# Altium schematic symbol library WiMOD_Modules_SchLib.SchLib: 15 symbols
Pins are listed as number, name and electrical type; pins without a type are passive.

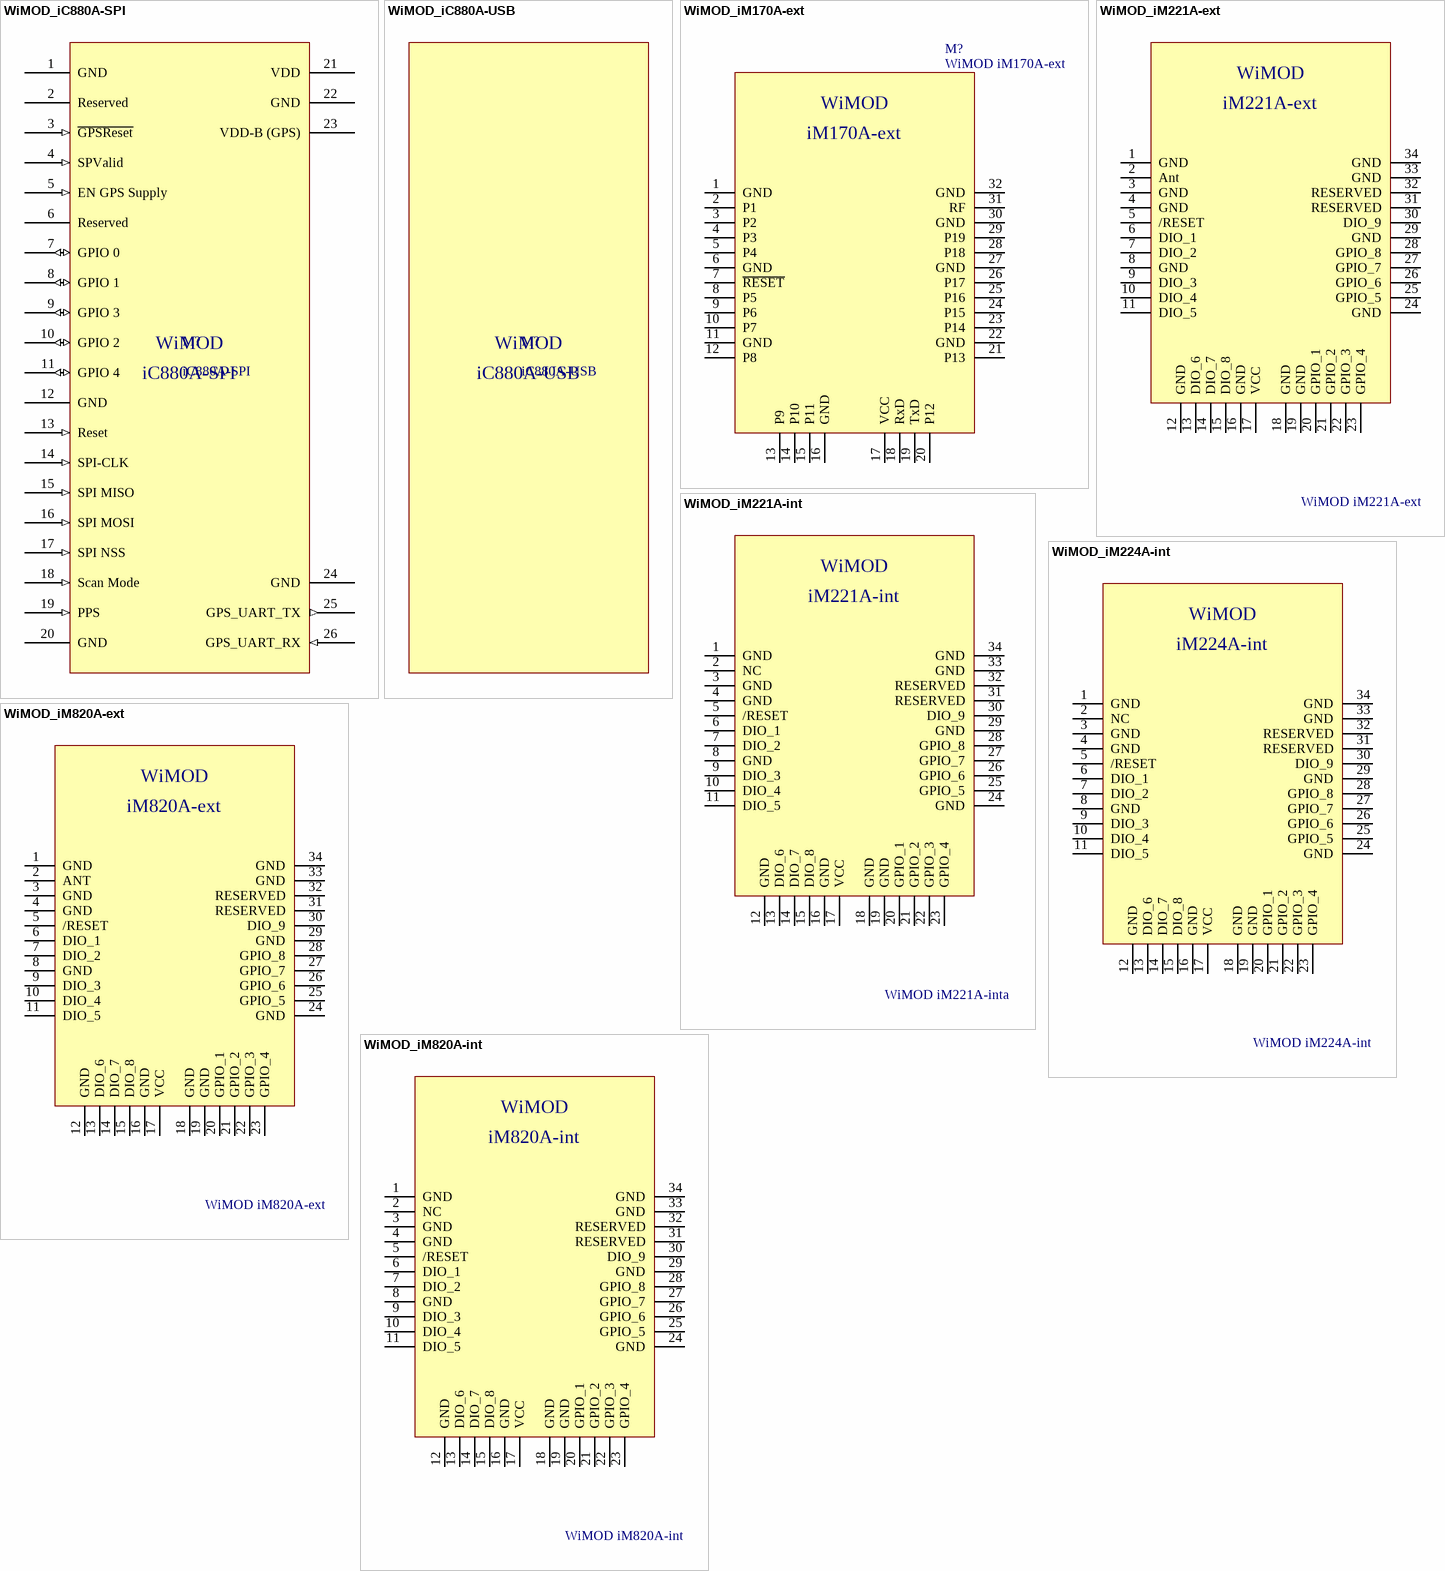
[diagram p0: symbols WiMOD_iC880A-SPI to WiMOD_iM820A-int]

## WiMOD_iC880A-SPI
designator M?, comment iC880A-SPI
WiMOD iC880A for SPI connection; Manufacturer: IMST GmbH
footprint WiMOD_iC880A-SPI
pins: 1 GND (power), 2 Reserved, 3 ~{GPSReset} (in), 4 SPValid (in), 5 EN GPS Supply (in), 6 Reserved, 7 GPIO 0 (io), 8 GPIO 1 (io), 9 GPIO 3 (io), 10 GPIO 2 (io), 11 GPIO 4 (io), 12 GND (power), 13 Reset (in), 14 SPI-CLK (in), 15 SPI MISO (in), 16 SPI MOSI (in), 17 SPI NSS (in), 18 Scan Mode (in), 19 PPS (in), 20 GND (power), 21 VDD (power), 22 GND (power), 23 VDD-B (GPS) (power), 24 GND (power), 25 GPS_UART_TX (out), 26 GPS_UART_RX (in)
text: WiMOD

## WiMOD_iC880A-USB
designator M?, comment iC880A-USB
WiMOD iC880A for USB connection; Manufacturer: IMST GmbH
footprint WiMOD_iC880A-USB
text: WiMOD

## WiMOD_iM170A-ext
designator M?, comment WiMOD iM170A-ext
WiMOD iM170A with RF pad; Manufacturer: IMST GmbH
footprint WiMOD_iM170A
pins: 1 GND, 2 P1, 3 P2, 4 P3, 5 P4, 6 GND, 7 ~{RESET}, 8 P5, 9 P6, 10 P7, 11 GND, 12 P8, 13 P9, 14 P10, 15 P11, 16 GND, 17 VCC, 18 RxD, 19 TxD, 20 P12, 21 P13, 22 GND, 23 P14, 24 P15, 25 P16, 26 P17, 27 GND, 28 P18, 29 P19, 30 GND, 31 RF, 32 GND
text: WiMOD; iM170A-ext

## WiMOD_iM221A-ext
designator M?, comment WiMOD iM221A-ext
WiMOD iM221A with RF pad; Manufacturer: IMST GmbH
footprint WiMOD_IM221A
pins: 1 GND, 2 Ant, 3 GND, 4 GND, 5 /RESET, 6 DIO_1, 7 DIO_2, 8 GND, 9 DIO_3, 10 DIO_4, 11 DIO_5, 12 GND, 13 DIO_6, 14 DIO_7, 15 DIO_8, 16 GND, 17 VCC, 18 GND, 19 GND, 20 GPIO_1, 21 GPIO_2, 22 GPIO_3, 23 GPIO_4, 24 GND, 25 GPIO_5, 26 GPIO_6, 27 GPIO_7, 28 GPIO_8, 29 GND, 30 DIO_9, 31 RESERVED, 32 RESERVED, 33 GND, 34 GND
text: WiMOD; iM221A-ext

## WiMOD_iM221A-int
designator M?, comment WiMOD iM221A-inta
WiMOD iM221A with internal Antenna; Manufacturer: IMST GmbH
footprint WiMOD_IM221A
pins: 1 GND, 2 NC, 3 GND, 4 GND, 5 /RESET, 6 DIO_1, 7 DIO_2, 8 GND, 9 DIO_3, 10 DIO_4, 11 DIO_5, 12 GND, 13 DIO_6, 14 DIO_7, 15 DIO_8, 16 GND, 17 VCC, 18 GND, 19 GND, 20 GPIO_1, 21 GPIO_2, 22 GPIO_3, 23 GPIO_4, 24 GND, 25 GPIO_5, 26 GPIO_6, 27 GPIO_7, 28 GPIO_8, 29 GND, 30 DIO_9, 31 RESERVED, 32 RESERVED, 33 GND, 34 GND
text: WiMOD; iM221A-int

## WiMOD_iM224A-int
designator M?, comment WiMOD iM224A-int
WiMOD iM224A with internal Antenna; Manufacturer: IMST GmbH
footprint WiMOD_IM224A
pins: 1 GND, 2 NC, 3 GND, 4 GND, 5 /RESET, 6 DIO_1, 7 DIO_2, 8 GND, 9 DIO_3, 10 DIO_4, 11 DIO_5, 12 GND, 13 DIO_6, 14 DIO_7, 15 DIO_8, 16 GND, 17 VCC, 18 GND, 19 GND, 20 GPIO_1, 21 GPIO_2, 22 GPIO_3, 23 GPIO_4, 24 GND, 25 GPIO_5, 26 GPIO_6, 27 GPIO_7, 28 GPIO_8, 29 GND, 30 DIO_9, 31 RESERVED, 32 RESERVED, 33 GND, 34 GND
text: WiMOD; iM224A-int

## WiMOD_iM820A-ext
designator M?, comment WiMOD iM820A-ext
WiMOD iM820A with RF pad; Manufacturer: IMST GmbH
footprint WiMOD_IM820A
pins: 1 GND, 2 ANT, 3 GND, 4 GND, 5 /RESET, 6 DIO_1, 7 DIO_2, 8 GND, 9 DIO_3, 10 DIO_4, 11 DIO_5, 12 GND, 13 DIO_6, 14 DIO_7, 15 DIO_8, 16 GND, 17 VCC, 18 GND, 19 GND, 20 GPIO_1, 21 GPIO_2, 22 GPIO_3, 23 GPIO_4, 24 GND, 25 GPIO_5, 26 GPIO_6, 27 GPIO_7, 28 GPIO_8, 29 GND, 30 DIO_9, 31 RESERVED, 32 RESERVED, 33 GND, 34 GND
text: WiMOD; iM820A-ext

## WiMOD_iM820A-int
designator M?, comment WiMOD iM820A-int
WiMOD iM820A with internal Antenna; Manufacturer: IMST GmbH
footprint WiMOD_IM820A
pins: 1 GND, 2 NC, 3 GND, 4 GND, 5 /RESET, 6 DIO_1, 7 DIO_2, 8 GND, 9 DIO_3, 10 DIO_4, 11 DIO_5, 12 GND, 13 DIO_6, 14 DIO_7, 15 DIO_8, 16 GND, 17 VCC, 18 GND, 19 GND, 20 GPIO_1, 21 GPIO_2, 22 GPIO_3, 23 GPIO_4, 24 GND, 25 GPIO_5, 26 GPIO_6, 27 GPIO_7, 28 GPIO_8, 29 GND, 30 DIO_9, 31 RESERVED, 32 RESERVED, 33 GND, 34 GND
text: WiMOD; iM820A-int

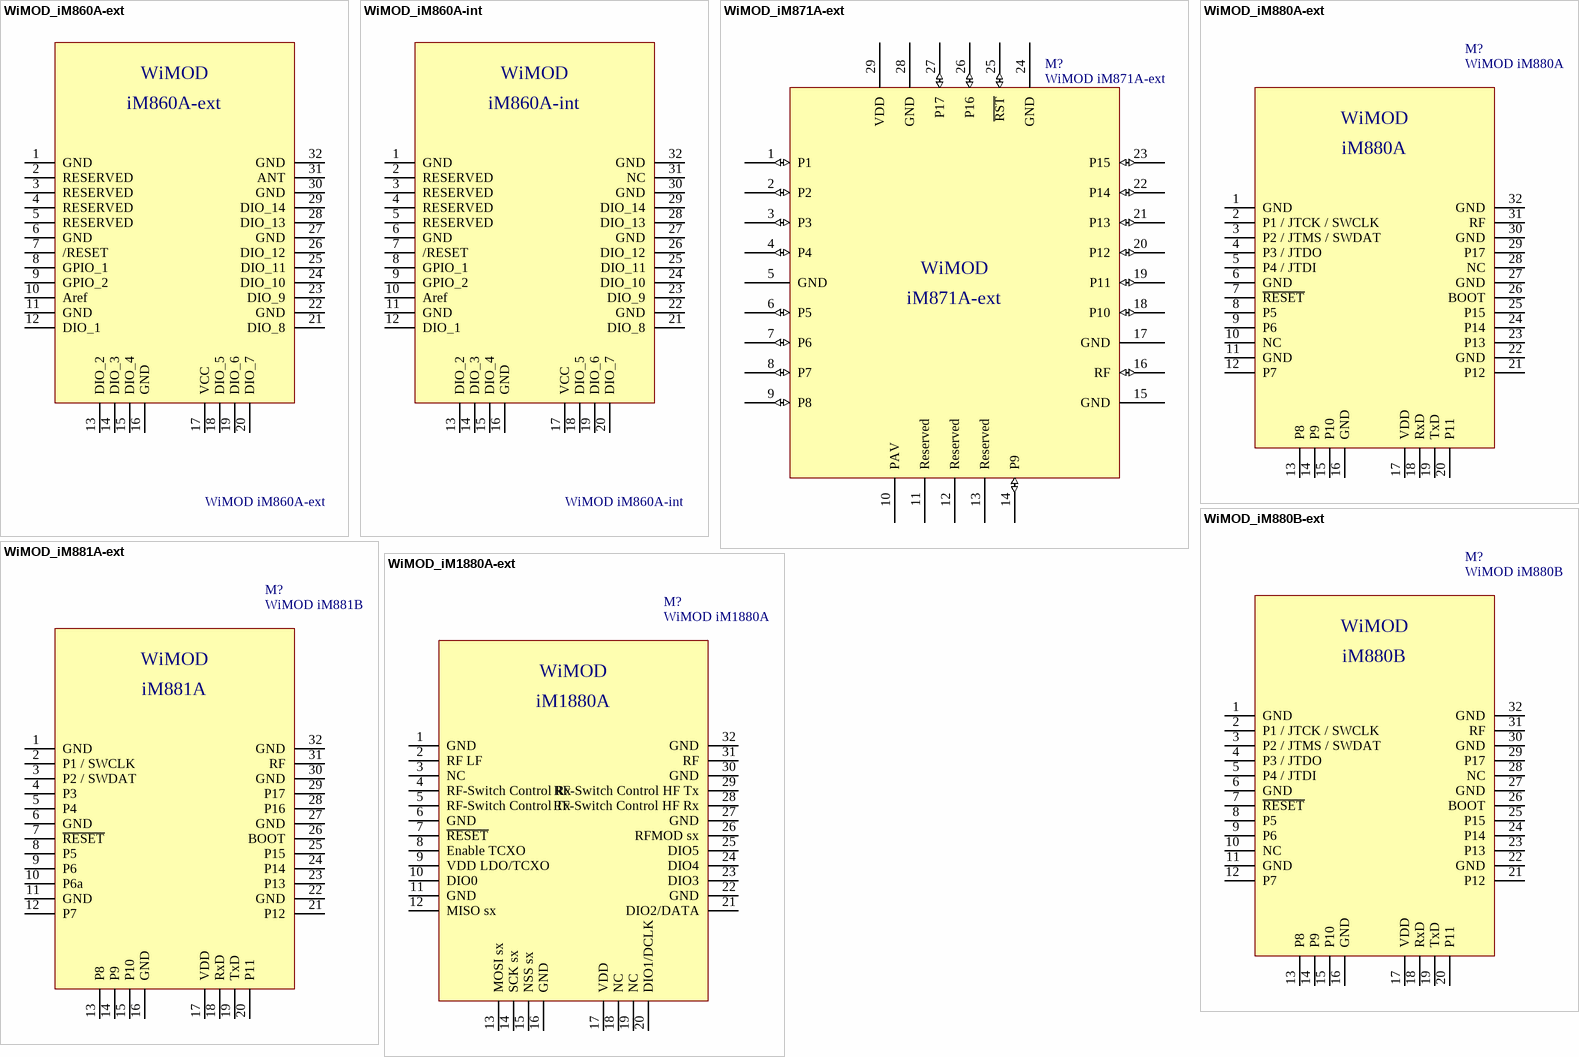
[diagram p1: symbols WiMOD_iM860A-ext to WiMOD_iM1880A-ext]

## WiMOD_iM860A-ext
designator M?, comment WiMOD iM860A-ext
WiMOD iM860A with RF pad; Manufacturer: IMST GmbH
footprint WiMOD_iM860A
pins: 1 GND, 2 RESERVED, 3 RESERVED, 4 RESERVED, 5 RESERVED, 6 GND, 7 /RESET, 8 GPIO_1, 9 GPIO_2, 10 Aref, 11 GND, 12 DIO_1, 13 DIO_2, 14 DIO_3, 15 DIO_4, 16 GND, 17 VCC, 18 DIO_5, 19 DIO_6, 20 DIO_7, 21 DIO_8, 22 GND, 23 DIO_9, 24 DIO_10, 25 DIO_11, 26 DIO_12, 27 GND, 28 DIO_13, 29 DIO_14, 30 GND, 31 ANT, 32 GND
text: WiMOD; iM860A-ext

## WiMOD_iM860A-int
designator M?, comment WiMOD iM860A-int
WiMOD iM860A with internal Antenna; Manufacturer: IMST GmbH
footprint WiMOD_iM860A
pins: 1 GND, 2 RESERVED, 3 RESERVED, 4 RESERVED, 5 RESERVED, 6 GND, 7 /RESET, 8 GPIO_1, 9 GPIO_2, 10 Aref, 11 GND, 12 DIO_1, 13 DIO_2, 14 DIO_3, 15 DIO_4, 16 GND, 17 VCC, 18 DIO_5, 19 DIO_6, 20 DIO_7, 21 DIO_8, 22 GND, 23 DIO_9, 24 DIO_10, 25 DIO_11, 26 DIO_12, 27 GND, 28 DIO_13, 29 DIO_14, 30 GND, 31 NC, 32 GND
text: WiMOD; iM860A-int

## WiMOD_iM871A-ext
designator M?, comment WiMOD iM871A-ext
WiMOD iM871A with RF pad; Manufacturer: IMST GmbH
footprint WiMOD_iM871A
pins: 1 P1 (io) "Si1002: P2.5", 2 P2 (io) "Si1002: P2.4", 3 P3 (io) "Si1002: P2.3", 4 P4 (io) "Si1002: P2.2", 5 GND (power), 6 P5 (io) "Si1002: P2.1", 7 P6 (io) "PA_State or Si1002: P2.0", 8 P7 (io) "Si1002: P1.7", 9 P8 (io) "Si1002: P1.6", 10 PAV (power) "PA Voltage", 11 Reserved "Si1002: GPIO2", 12 Reserved "Si1002: GPIO1", 13 Reserved "Si1002: GPIO 0", 14 P9 (io) "Si1002: P0.7", 15 GND (power), 16 RF (io), 17 GND (power), 18 P10 (io) "Si1002: P0.5", 19 P11 (io) "Si1002: P0.4", 20 P12 (io) "Si1002: P0.3", 21 P13 (io) "Si1002: P0.2", 22 P14 (io) "Si1002: P0.1", 23 P15 (io) "Si1002: P0.0", 24 GND (power), 25 ~{RST} (io) "Si1002: RST or C2 Clock", 26 P16 (io) "Si1002: P2.7", 27 P17 (io) "Si1002: P2.6", 28 GND (power), 29 VDD (power)
text: WiMOD; iM871A-ext

## WiMOD_iM880A-ext
designator M?, comment WiMOD iM880A
WiMOD iM880A with RF pad; Manufacturer: IMST GmbH
footprint WiMOD_iM880A
pins: 1 GND, 2 P1 / JTCK / SWCLK, 3 P2 / JTMS / SWDAT, 4 P3 / JTDO, 5 P4 / JTDI, 6 GND, 7 ~{RESET}, 8 P5, 9 P6, 10 NC, 11 GND, 12 P7, 13 P8, 14 P9, 15 P10, 16 GND, 17 VDD, 18 RxD, 19 TxD, 20 P11, 21 P12, 22 GND, 23 P13, 24 P14, 25 P15, 26 BOOT, 27 GND, 28 NC, 29 P17, 30 GND, 31 RF, 32 GND
text: WiMOD; iM880A

## WiMOD_iM880B-ext
designator M?, comment WiMOD iM880B
WiMOD iM880B with RF pad; Manufacturer: IMST GmbH
footprint WiMOD_iM880B
pins: 1 GND, 2 P1 / JTCK / SWCLK, 3 P2 / JTMS / SWDAT, 4 P3 / JTDO, 5 P4 / JTDI, 6 GND, 7 ~{RESET}, 8 P5, 9 P6, 10 NC, 11 GND, 12 P7, 13 P8, 14 P9, 15 P10, 16 GND, 17 VDD, 18 RxD, 19 TxD, 20 P11, 21 P12, 22 GND, 23 P13, 24 P14, 25 P15, 26 BOOT, 27 GND, 28 NC, 29 P17, 30 GND, 31 RF, 32 GND
text: WiMOD; iM880B

## WiMOD_iM881A-ext
designator M?, comment WiMOD iM881B
WiMOD iM881B with RF pad; Manufacturer: IMST GmbH
footprint WiMOD_iM881A
pins: 1 GND, 2 P1 / SWCLK, 3 P2 / SWDAT, 4 P3, 5 P4, 6 GND, 7 ~{RESET}, 8 P5, 9 P6, 10 P6a, 11 GND, 12 P7, 13 P8, 14 P9, 15 P10, 16 GND, 17 VDD, 18 RxD, 19 TxD, 20 P11, 21 P12, 22 GND, 23 P13, 24 P14, 25 P15, 26 BOOT, 27 GND, 28 P16, 29 P17, 30 GND, 31 RF, 32 GND
text: WiMOD; iM881A

## WiMOD_iM1880A-ext
designator M?, comment WiMOD iM1880A
WiMOD iM1880A with RF pad; Manufacturer: IMST GmbH
footprint WiMOD_iM1880A
pins: 1 GND, 2 RF LF, 3 NC, 4 RF-Switch Control Rx, 5 RF-Switch Control Tx, 6 GND, 7 ~{RESET}, 8 Enable TCXO, 9 VDD LDO/TCXO, 10 DIO0, 11 GND, 12 MISO sx, 13 MOSI sx, 14 SCK sx, 15 NSS sx, 16 GND, 17 VDD, 18 NC, 19 NC, 20 DIO1/DCLK, 21 DIO2/DATA, 22 GND, 23 DIO3, 24 DIO4, 25 DIO5, 26 RFMOD sx, 27 GND, 28 RF-Switch Control HF Rx, 29 RF-Switch Control HF Tx, 30 GND, 31 RF, 32 GND
text: WiMOD; iM1880A